# EAGLE library part UEI-P52 (library dc-dc-converter)
DC-DC CONVERTER UE Series, Murata
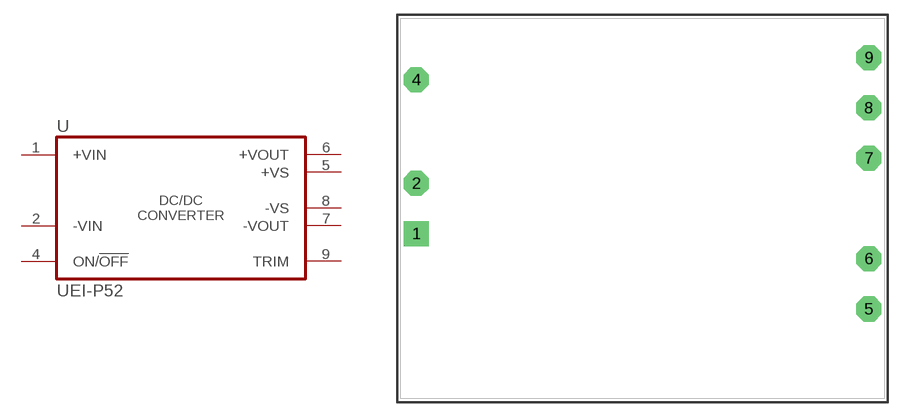
[diagram p10: symbol with the pads of UEI; footprint UEI]

Designator prefix U

## UEI-P52  [UEI]
1  +VIN  pas
2  -VIN  pas
4  ON/!OFF!  pas
5  +VS  pas
6  +VOUT  pas
7  -VOUT  pas
8  -VS  pas
9  TRIM  pas

## Footprint UEI (pad centres in mm)
DC-DC CONVERTER UEI Series, Murata
drill 1.422 pad 2.54 square: 1 -22.86,-2.54
drill 1.422 pad 2.54 octagon: 2 -22.86,2.54; 4 -22.86,13; 5 22.86,-10.16; 6 22.86,-5.08; 7 22.86,5.08; 8 22.86,10.16; 9 22.86,15.24